# Altium footprint library Sim800L Module.PcbLib: 1 footprints
Each footprint in its own frame and in the unit in brackets; x right, y up, seen from the top. Pads: shape width x height; smd on the part's side, far side on the other; paste and mask are expansions set on the pad; w line width, h text height; cw(c..) or ccw(c..) is an arc to the next point about the centre after c.
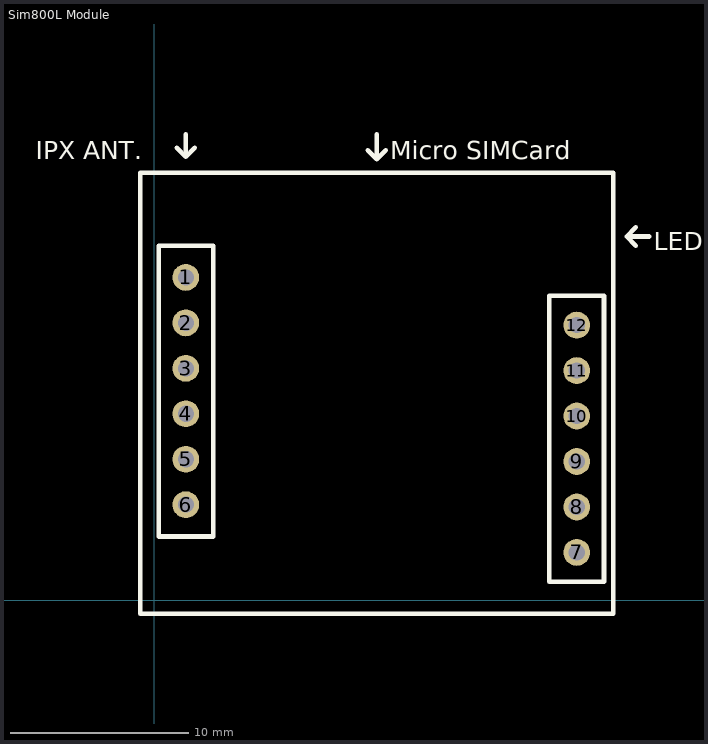
[diagram p0: the footprint, top view; thin cyan lines are the x and y axes]

## Sim800L Module [mm] "Sim800L GSM Module"
pads (12):
  round 1.5 hole 0.9: 1(1.778,18.034) 2(1.778,15.494) 3(1.778,12.954) 4(1.778,10.414) 5(1.778,7.874) 6(1.778,5.334) 7(23.622,2.667) 8(23.622,5.207) 9(23.622,7.747) 10(23.622,10.287) 11(23.622,12.827) 12(23.622,15.367)
Top Overlay:
  lines w0.254: 1.27,25.273 1.778,24.765 ; 1.778,26.035 1.778,24.765 ; 2.286,25.273 1.778,24.765 ; 11.938,25.146 12.446,24.638 12.954,25.146 ; 12.446,24.765 12.446,26.035 ; 26.924,19.812 26.416,20.32 ; 26.924,20.828 26.416,20.32 ; 27.686,20.32 26.416,20.32 ; -0.762,-0.762 25.654,-0.762 25.654,23.876 -0.762,23.876 -0.762,-0.762 ; 0.254,3.556 3.302,3.556 3.302,19.812 0.254,19.812 0.254,3.556 ; 22.098,1.016 25.146,1.016 25.146,17.018 22.098,17.018 22.098,1.016
  text "Micro SIMCard" at 13.208,24.638 h1.02
  text "IPX ANT." at -6.604,24.638 h1.02
  text "LED" at 27.94,19.558 h1.02
3D body "SIM800L v10.step": height 11.68, standoff 5.91, extent -0.063,0 24.955,23
3D body "zl305-6s_p2-54_l15-74_w2-5_h5.stp": height 5, standoff -3, extent 0.528,3.814 3.028,19.554
3D body "zl305-6s_p2-54_l15-74_w2-5_h5.stp": height 5, standoff -3, extent 22.245,1.151 24.745,16.891
3D body "pin_header_6.STEP": height 10.55, standoff -3.45, extent 0.508,4.064 3.048,19.304
3D body "pin_header_6.STEP": height 10.55, standoff -3.45, extent 22.352,1.397 24.892,16.637